# Altium schematic symbol library 1.54Inch-CTP-AML-016YGF6502A2.SchLib: 1 symbol
Pins are listed as number, name and electrical type; pins without a type are passive.

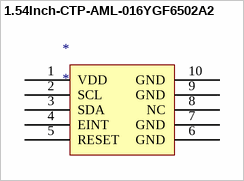
[diagram p0: symbol 1.54Inch-CTP-AML-016YGF6502A2]

## 1.54Inch-CTP-AML-016YGF6502A2
designator *
pins: 1 VDD, 2 SCL, 3 SDA, 4 EINT, 5 RESET, 6 GND, 7 GND, 8 NC, 9 GND, 10 GND